# Altium schematic symbol library IND,10uH,5.2A,Molded,SMD.Schlib: 1 symbol
Pins are listed as number, name and electrical type; pins without a type are passive.

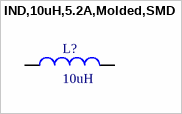
[diagram p0: symbol IND,10uH,5.2A,Molded,SMD]

## IND,10uH,5.2A,Molded,SMD
designator L?, comment 10uH
Shielded Molded Inductor 30mOhm Max Nonstandard
pins: 1, 2